# EAGLE library part 6SLX75FGG484 (library project)
Xilinx FPGA: 6SLX75FGG484
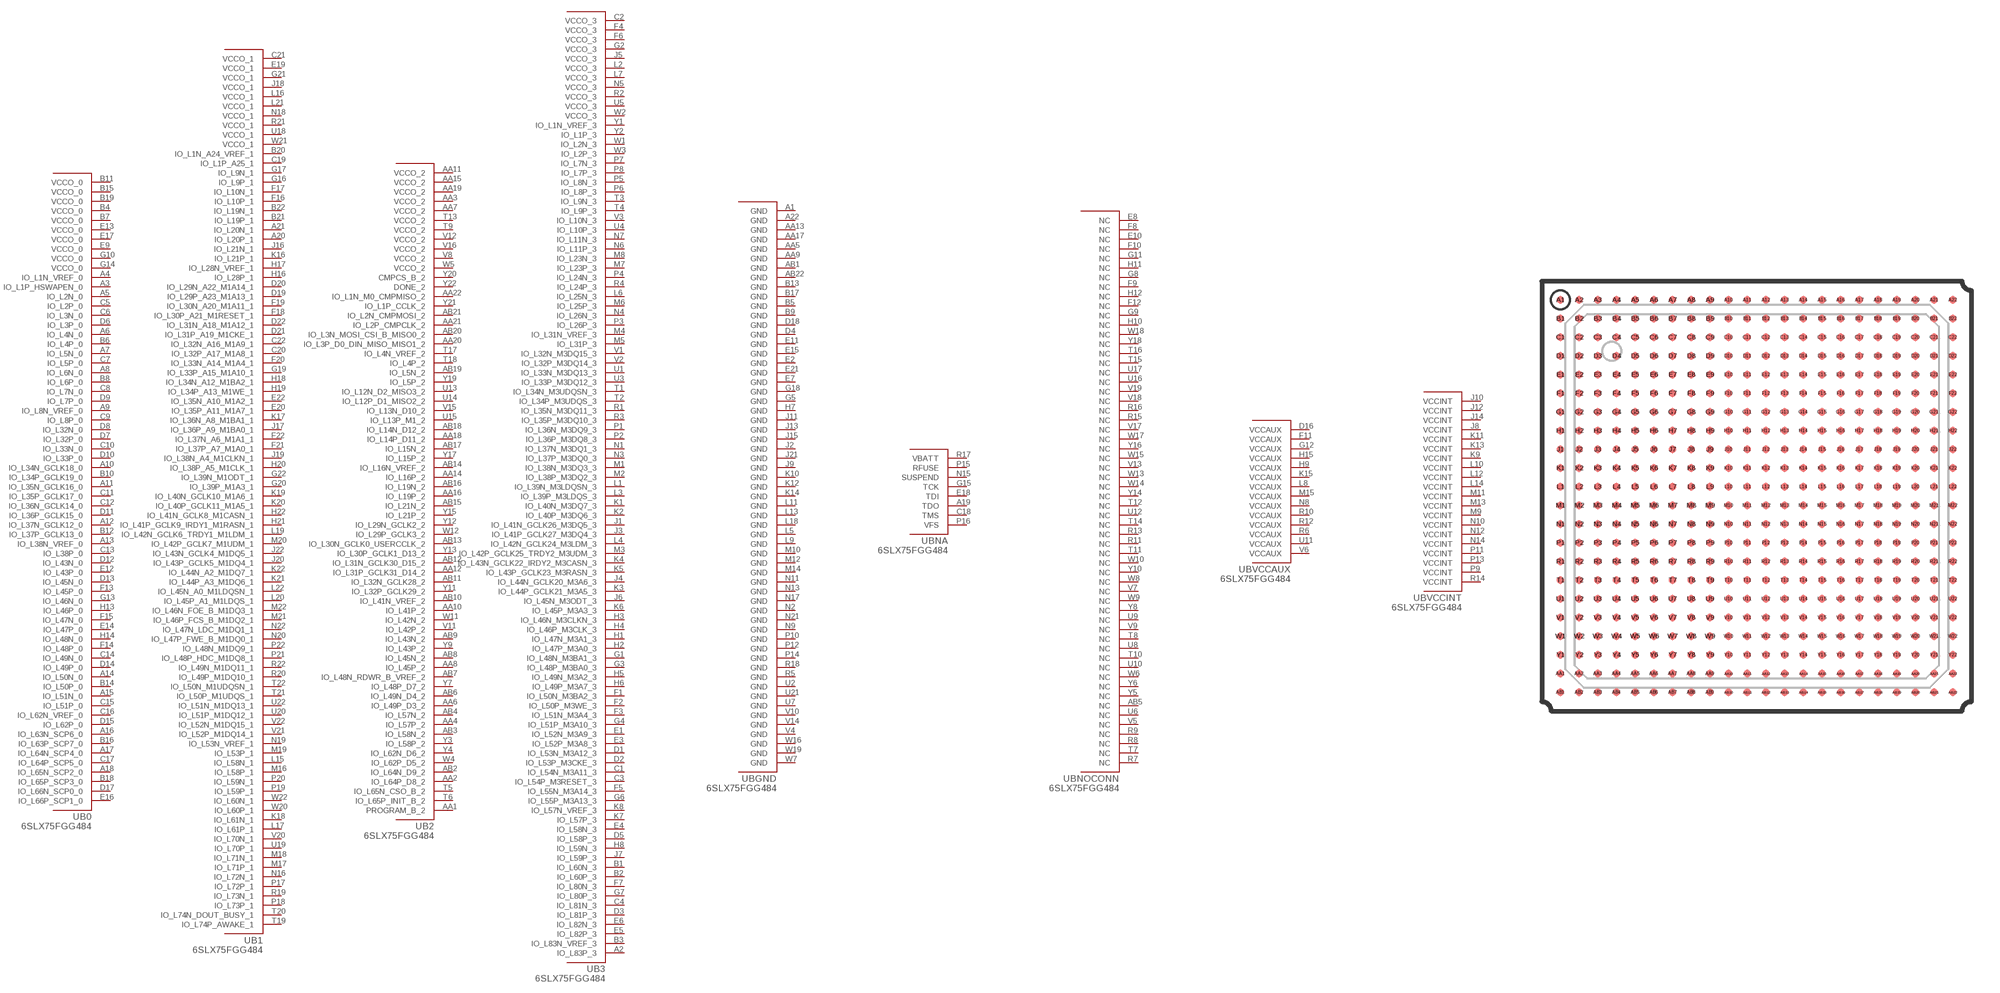
[diagram p8: symbol with the pads of FG484; footprint FG484]

Designator prefix U; gates B0=6SLX75FGG484_0 B1=6SLX75FGG484_1 B2=6SLX75FGG484_2 B3=6SLX75FGG484_3 BGND=6SLX75FGG484_GND BNA=6SLX75FGG484_NA BNOCONN=6SLX75FGG484_NOCONN BVCCAUX=6SLX75FGG484_VCCAUX BVCCINT=6SLX75FGG484_VCCINT

## 6SLX75FGG484  [FG484]
A1  BGND:GND  pwr
A2  B3:IO_L83P_3
A3  B0:IO_L1P_HSWAPEN_0
A4  B0:IO_L1N_VREF_0
A5  B0:IO_L2N_0
A6  B0:IO_L4N_0
A7  B0:IO_L5N_0
A8  B0:IO_L6N_0
A9  B0:IO_L8N_VREF_0
A10  B0:IO_L34N_GCLK18_0
A11  B0:IO_L35N_GCLK16_0
A12  B0:IO_L37N_GCLK12_0
A13  B0:IO_L38N_VREF_0
A14  B0:IO_L50N_0
A15  B0:IO_L51N_0
A16  B0:IO_L63N_SCP6_0
A17  B0:IO_L64N_SCP4_0
A18  B0:IO_L65N_SCP2_0
A19  BNA:TDO  out
A20  B1:IO_L20P_1
A21  B1:IO_L20N_1
A22  BGND:GND  pwr
AA1  B2:PROGRAM_B_2  in
AA2  B2:IO_L64P_D8_2
AA3  B2:VCCO_2  in
AA4  B2:IO_L57P_2
AA5  BGND:GND  pwr
AA6  B2:IO_L49P_D3_2
AA7  B2:VCCO_2  in
AA8  B2:IO_L45P_2
AA9  BGND:GND  pwr
AA10  B2:IO_L41P_2
AA11  B2:VCCO_2  in
AA12  B2:IO_L31P_GCLK31_D14_2
AA13  BGND:GND  pwr
AA14  B2:IO_L16P_2
AA15  B2:VCCO_2  in
AA16  B2:IO_L19P_2
AA17  BGND:GND  pwr
AA18  B2:IO_L14P_D11_2
AA19  B2:VCCO_2  in
AA20  B2:IO_L3P_D0_DIN_MISO_MISO1_2
AA21  B2:IO_L2P_CMPCLK_2
AA22  B2:IO_L1N_M0_CMPMISO_2
AB1  BGND:GND  pwr
AB2  B2:IO_L64N_D9_2
AB3  B2:IO_L58N_2
AB4  B2:IO_L57N_2
AB5  BNOCONN:NC  pas
AB6  B2:IO_L49N_D4_2
AB7  B2:IO_L48N_RDWR_B_VREF_2
AB8  B2:IO_L45N_2
AB9  B2:IO_L43N_2
AB10  B2:IO_L41N_VREF_2
AB11  B2:IO_L32N_GCLK28_2
AB12  B2:IO_L31N_GCLK30_D15_2
AB13  B2:IO_L30N_GCLK0_USERCCLK_2
AB14  B2:IO_L16N_VREF_2
AB15  B2:IO_L21N_2
AB16  B2:IO_L19N_2
AB17  B2:IO_L15N_2
AB18  B2:IO_L14N_D12_2
AB19  B2:IO_L5N_2
AB20  B2:IO_L3N_MOSI_CSI_B_MISO0_2
AB21  B2:IO_L2N_CMPMOSI_2
AB22  BGND:GND  pwr
B1  B3:IO_L60N_3
B2  B3:IO_L60P_3
B3  B3:IO_L83N_VREF_3
B4  B0:VCCO_0  in
B5  BGND:GND  pwr
B6  B0:IO_L4P_0
B7  B0:VCCO_0  in
B8  B0:IO_L6P_0
B9  BGND:GND  pwr
B10  B0:IO_L34P_GCLK19_0
B11  B0:VCCO_0  in
B12  B0:IO_L37P_GCLK13_0
B13  BGND:GND  pwr
B14  B0:IO_L50P_0
B15  B0:VCCO_0  in
B16  B0:IO_L63P_SCP7_0
B17  BGND:GND  pwr
B18  B0:IO_L65P_SCP3_0
B19  B0:VCCO_0  in
B20  B1:IO_L1N_A24_VREF_1
B21  B1:IO_L19P_1
B22  B1:IO_L19N_1
C1  B3:IO_L54N_M3A11_3
C2  B3:VCCO_3  in
C3  B3:IO_L54P_M3RESET_3
C4  B3:IO_L81N_3
C5  B0:IO_L2P_0
C6  B0:IO_L3N_0
C7  B0:IO_L5P_0
C8  B0:IO_L7N_0
C9  B0:IO_L8P_0
C10  B0:IO_L33N_0
C11  B0:IO_L35P_GCLK17_0
C12  B0:IO_L36N_GCLK14_0
C13  B0:IO_L38P_0
C14  B0:IO_L49N_0
C15  B0:IO_L51P_0
C16  B0:IO_L62N_VREF_0
C17  B0:IO_L64P_SCP5_0
C18  BNA:TMS  in
C19  B1:IO_L1P_A25_1
C20  B1:IO_L32P_A17_M1A8_1
C21  B1:VCCO_1  in
C22  B1:IO_L32N_A16_M1A9_1
D1  B3:IO_L53N_M3A12_3
D2  B3:IO_L53P_M3CKE_3
D3  B3:IO_L81P_3
D4  BGND:GND  pwr
D5  B3:IO_L58P_3
D6  B0:IO_L3P_0
D7  B0:IO_L32P_0
D8  B0:IO_L32N_0
D9  B0:IO_L7P_0
D10  B0:IO_L33P_0
D11  B0:IO_L36P_GCLK15_0
D12  B0:IO_L43N_0
D13  B0:IO_L45N_0
D14  B0:IO_L49P_0
D15  B0:IO_L62P_0
D16  BVCCAUX:VCCAUX  in
D17  B0:IO_L66N_SCP0_0
D18  BGND:GND  pwr
D19  B1:IO_L29P_A23_M1A13_1
D20  B1:IO_L29N_A22_M1A14_1
D21  B1:IO_L31P_A19_M1CKE_1
D22  B1:IO_L31N_A18_M1A12_1
E1  B3:IO_L52N_M3A9_3
E2  BGND:GND  pwr
E3  B3:IO_L52P_M3A8_3
E4  B3:IO_L58N_3
E5  B3:IO_L82P_3
E6  B3:IO_L82N_3
E7  BGND:GND  pwr
E8  BNOCONN:NC  pas
E9  B0:VCCO_0  in
E10  BNOCONN:NC  pas
E11  BGND:GND  pwr
E12  B0:IO_L43P_0
E13  B0:VCCO_0  in
E14  B0:IO_L47P_0
E15  BGND:GND  pwr
E16  B0:IO_L66P_SCP1_0
E17  B0:VCCO_0  in
E18  BNA:TDI  in
E19  B1:VCCO_1  in
E20  B1:IO_L35P_A11_M1A7_1
E21  BGND:GND  pwr
E22  B1:IO_L35N_A10_M1A2_1
F1  B3:IO_L50N_M3BA2_3
F2  B3:IO_L50P_M3WE_3
F3  B3:IO_L51N_M3A4_3
F4  B3:VCCO_3  in
F5  B3:IO_L55N_M3A14_3
F6  B3:VCCO_3  in
F7  B3:IO_L80N_3
F8  BNOCONN:NC  pas
F9  BNOCONN:NC  pas
F10  BNOCONN:NC  pas
F11  BVCCAUX:VCCAUX  in
F12  BNOCONN:NC  pas
F13  B0:IO_L45P_0
F14  B0:IO_L48P_0
F15  B0:IO_L47N_0
F16  B1:IO_L10P_1
F17  B1:IO_L10N_1
F18  B1:IO_L30P_A21_M1RESET_1
F19  B1:IO_L30N_A20_M1A11_1
F20  B1:IO_L33N_A14_M1A4_1
F21  B1:IO_L37P_A7_M1A0_1
F22  B1:IO_L37N_A6_M1A1_1
G1  B3:IO_L48N_M3BA1_3
G2  B3:VCCO_3  in
G3  B3:IO_L48P_M3BA0_3
G4  B3:IO_L51P_M3A10_3
G5  BGND:GND  pwr
G6  B3:IO_L55P_M3A13_3
G7  B3:IO_L80P_3
G8  BNOCONN:NC  pas
G9  BNOCONN:NC  pas
G10  B0:VCCO_0  in
G11  BNOCONN:NC  pas
G12  BVCCAUX:VCCAUX  in
G13  B0:IO_L46N_0
G14  B0:VCCO_0  in
G15  BNA:TCK  in
G16  B1:IO_L9P_1
G17  B1:IO_L9N_1
G18  BGND:GND  pwr
G19  B1:IO_L33P_A15_M1A10_1
G20  B1:IO_L39P_M1A3_1
G21  B1:VCCO_1  in
G22  B1:IO_L39N_M1ODT_1
H1  B3:IO_L47N_M3A1_3
H2  B3:IO_L47P_M3A0_3
H3  B3:IO_L46N_M3CLKN_3
H4  B3:IO_L46P_M3CLK_3
H5  B3:IO_L49N_M3A2_3
H6  B3:IO_L49P_M3A7_3
H7  BGND:GND  pwr
H8  B3:IO_L59N_3
H9  BVCCAUX:VCCAUX  in
H10  BNOCONN:NC  pas
H11  BNOCONN:NC  pas
H12  BNOCONN:NC  pas
H13  B0:IO_L46P_0
H14  B0:IO_L48N_0
H15  BVCCAUX:VCCAUX  in
H16  B1:IO_L28P_1
H17  B1:IO_L28N_VREF_1
H18  B1:IO_L34N_A12_M1BA2_1
H19  B1:IO_L34P_A13_M1WE_1
H20  B1:IO_L38P_A5_M1CLK_1
H21  B1:IO_L41P_GCLK9_IRDY1_M1RASN_1
H22  B1:IO_L41N_GCLK8_M1CASN_1
J1  B3:IO_L41N_GCLK26_M3DQ5_3
J2  BGND:GND  pwr
J3  B3:IO_L41P_GCLK27_M3DQ4_3
J4  B3:IO_L44N_GCLK20_M3A6_3
J5  B3:VCCO_3  in
J6  B3:IO_L45N_M3ODT_3
J7  B3:IO_L59P_3
J8  BVCCINT:VCCINT  in
J9  BGND:GND  pwr
J10  BVCCINT:VCCINT  in
J11  BGND:GND  pwr
J12  BVCCINT:VCCINT  in
J13  BGND:GND  pwr
J14  BVCCINT:VCCINT  in
J15  BGND:GND  pwr
J16  B1:IO_L21N_1
J17  B1:IO_L36P_A9_M1BA0_1
J18  B1:VCCO_1  in
J19  B1:IO_L38N_A4_M1CLKN_1
J20  B1:IO_L43P_GCLK5_M1DQ4_1
J21  BGND:GND  pwr
J22  B1:IO_L43N_GCLK4_M1DQ5_1
K1  B3:IO_L40N_M3DQ7_3
K2  B3:IO_L40P_M3DQ6_3
K3  B3:IO_L44P_GCLK21_M3A5_3
K4  B3:IO_L43N_GCLK22_IRDY2_M3CASN_3
K5  B3:IO_L43P_GCLK23_M3RASN_3
K6  B3:IO_L45P_M3A3_3
K7  B3:IO_L57P_3
K8  B3:IO_L57N_VREF_3
K9  BVCCINT:VCCINT  in
K10  BGND:GND  pwr
K11  BVCCINT:VCCINT  in
K12  BGND:GND  pwr
K13  BVCCINT:VCCINT  in
K14  BGND:GND  pwr
K15  BVCCAUX:VCCAUX  in
K16  B1:IO_L21P_1
K17  B1:IO_L36N_A8_M1BA1_1
K18  B1:IO_L61N_1
K19  B1:IO_L40N_GCLK10_M1A6_1
K20  B1:IO_L40P_GCLK11_M1A5_1
K21  B1:IO_L44P_A3_M1DQ6_1
K22  B1:IO_L44N_A2_M1DQ7_1
L1  B3:IO_L39N_M3LDQSN_3
L2  B3:VCCO_3  in
L3  B3:IO_L39P_M3LDQS_3
L4  B3:IO_L42N_GCLK24_M3LDM_3
L5  BGND:GND  pwr
L6  B3:IO_L25N_3
L7  B3:VCCO_3  in
L8  BVCCAUX:VCCAUX  in
L9  BGND:GND  pwr
L10  BVCCINT:VCCINT  in
L11  BGND:GND  pwr
L12  BVCCINT:VCCINT  in
L13  BGND:GND  pwr
L14  BVCCINT:VCCINT  in
L15  B1:IO_L58N_1
L16  B1:VCCO_1  in
L17  B1:IO_L61P_1
L18  BGND:GND  pwr
L19  B1:IO_L42N_GCLK6_TRDY1_M1LDM_1
L20  B1:IO_L45P_A1_M1LDQS_1
L21  B1:VCCO_1  in
L22  B1:IO_L45N_A0_M1LDQSN_1
M1  B3:IO_L38N_M3DQ3_3
M2  B3:IO_L38P_M3DQ2_3
M3  B3:IO_L42P_GCLK25_TRDY2_M3UDM_3
M4  B3:IO_L31N_VREF_3
M5  B3:IO_L31P_3
M6  B3:IO_L25P_3
M7  B3:IO_L23P_3
M8  B3:IO_L23N_3
M9  BVCCINT:VCCINT  in
M10  BGND:GND  pwr
M11  BVCCINT:VCCINT  in
M12  BGND:GND  pwr
M13  BVCCINT:VCCINT  in
M14  BGND:GND  pwr
M15  BVCCAUX:VCCAUX  in
M16  B1:IO_L58P_1
M17  B1:IO_L71P_1
M18  B1:IO_L71N_1
M19  B1:IO_L53P_1
M20  B1:IO_L42P_GCLK7_M1UDM_1
M21  B1:IO_L46P_FCS_B_M1DQ2_1
M22  B1:IO_L46N_FOE_B_M1DQ3_1
N1  B3:IO_L37N_M3DQ1_3
N2  BGND:GND  pwr
N3  B3:IO_L37P_M3DQ0_3
N4  B3:IO_L26N_3
N5  B3:VCCO_3  in
N6  B3:IO_L11P_3
N7  B3:IO_L11N_3
N8  BVCCAUX:VCCAUX  in
N9  BGND:GND  pwr
N10  BVCCINT:VCCINT  in
N11  BGND:GND  pwr
N12  BVCCINT:VCCINT  in
N13  BGND:GND  pwr
N14  BVCCINT:VCCINT  in
N15  BNA:SUSPEND  in
N16  B1:IO_L72N_1
N17  BGND:GND  pwr
N18  B1:VCCO_1  in
N19  B1:IO_L53N_VREF_1
N20  B1:IO_L47P_FWE_B_M1DQ0_1
N21  BGND:GND  pwr
N22  B1:IO_L47N_LDC_M1DQ1_1
P1  B3:IO_L36N_M3DQ9_3
P2  B3:IO_L36P_M3DQ8_3
P3  B3:IO_L26P_3
P4  B3:IO_L24N_3
P5  B3:IO_L8N_3
P6  B3:IO_L8P_3
P7  B3:IO_L7N_3
P8  B3:IO_L7P_3
P9  BVCCINT:VCCINT  in
P10  BGND:GND  pwr
P11  BVCCINT:VCCINT  in
P12  BGND:GND  pwr
P13  BVCCINT:VCCINT  in
P14  BGND:GND  pwr
P15  BNA:RFUSE
P16  BNA:VFS
P17  B1:IO_L72P_1
P18  B1:IO_L73P_1
P19  B1:IO_L59P_1
P20  B1:IO_L59N_1
P21  B1:IO_L48P_HDC_M1DQ8_1
P22  B1:IO_L48N_M1DQ9_1
R1  B3:IO_L35N_M3DQ11_3
R2  B3:VCCO_3  in
R3  B3:IO_L35P_M3DQ10_3
R4  B3:IO_L24P_3
R5  BGND:GND  pwr
R6  BVCCAUX:VCCAUX  in
R7  BNOCONN:NC  pas
R8  BNOCONN:NC  pas
R9  BNOCONN:NC  pas
R10  BVCCAUX:VCCAUX  in
R11  BNOCONN:NC  pas
R12  BVCCAUX:VCCAUX  in
R13  BNOCONN:NC  pas
R14  BVCCINT:VCCINT  in
R15  BNOCONN:NC  pas
R16  BNOCONN:NC  pas
R17  BNA:VBATT  in
R18  BGND:GND  pwr
R19  B1:IO_L73N_1
R20  B1:IO_L49P_M1DQ10_1
R21  B1:VCCO_1  in
R22  B1:IO_L49N_M1DQ11_1
T1  B3:IO_L34N_M3UDQSN_3
T2  B3:IO_L34P_M3UDQS_3
T3  B3:IO_L9N_3
T4  B3:IO_L9P_3
T5  B2:IO_L65N_CSO_B_2
T6  B2:IO_L65P_INIT_B_2
T7  BNOCONN:NC  pas
T8  BNOCONN:NC  pas
T9  B2:VCCO_2  in
T10  BNOCONN:NC  pas
T11  BNOCONN:NC  pas
T12  BNOCONN:NC  pas
T13  B2:VCCO_2  in
T14  BNOCONN:NC  pas
T15  BNOCONN:NC  pas
T16  BNOCONN:NC  pas
T17  B2:IO_L4N_VREF_2
T18  B2:IO_L4P_2
T19  B1:IO_L74P_AWAKE_1
T20  B1:IO_L74N_DOUT_BUSY_1
T21  B1:IO_L50P_M1UDQS_1
T22  B1:IO_L50N_M1UDQSN_1
U1  B3:IO_L33N_M3DQ13_3
U2  BGND:GND  pwr
U3  B3:IO_L33P_M3DQ12_3
U4  B3:IO_L10P_3
U5  B3:VCCO_3  in
U6  BNOCONN:NC  pas
U7  BGND:GND  pwr
U8  BNOCONN:NC  pas
U9  BNOCONN:NC  pas
U10  BNOCONN:NC  pas
U11  BVCCAUX:VCCAUX  in
U12  BNOCONN:NC  pas
U13  B2:IO_L12N_D2_MISO3_2
U14  B2:IO_L12P_D1_MISO2_2
U15  B2:IO_L13P_M1_2
U16  BNOCONN:NC  pas
U17  BNOCONN:NC  pas
U18  B1:VCCO_1  in
U19  B1:IO_L70P_1
U20  B1:IO_L51P_M1DQ12_1
U21  BGND:GND  pwr
U22  B1:IO_L51N_M1DQ13_1
V1  B3:IO_L32N_M3DQ15_3
V2  B3:IO_L32P_M3DQ14_3
V3  B3:IO_L10N_3
V4  BGND:GND  pwr
V5  BNOCONN:NC  pas
V6  BVCCAUX:VCCAUX  in
V7  BNOCONN:NC  pas
V8  B2:VCCO_2  in
V9  BNOCONN:NC  pas
V10  BGND:GND  pwr
V11  B2:IO_L42P_2
V12  B2:VCCO_2  in
V13  BNOCONN:NC  pas
V14  BGND:GND  pwr
V15  B2:IO_L13N_D10_2
V16  B2:VCCO_2  in
V17  BNOCONN:NC  pas
V18  BNOCONN:NC  pas
V19  BNOCONN:NC  pas
V20  B1:IO_L70N_1
V21  B1:IO_L52P_M1DQ14_1
V22  B1:IO_L52N_M1DQ15_1
W1  B3:IO_L2N_3
W2  B3:VCCO_3  in
W3  B3:IO_L2P_3
W4  B2:IO_L62P_D5_2
W5  B2:VCCO_2  in
W6  BNOCONN:NC  pas
W7  BGND:GND  pwr
W8  BNOCONN:NC  pas
W9  BNOCONN:NC  pas
W10  BNOCONN:NC  pas
W11  B2:IO_L42N_2
W12  B2:IO_L29P_GCLK3_2
W13  BNOCONN:NC  pas
W14  BNOCONN:NC  pas
W15  BNOCONN:NC  pas
W16  BGND:GND  pwr
W17  BNOCONN:NC  pas
W18  BNOCONN:NC  pas
W19  BGND:GND  pwr
W20  B1:IO_L60P_1
W21  B1:VCCO_1  in
W22  B1:IO_L60N_1
Y1  B3:IO_L1N_VREF_3
Y2  B3:IO_L1P_3
Y3  B2:IO_L58P_2
Y4  B2:IO_L62N_D6_2
Y5  BNOCONN:NC  pas
Y6  BNOCONN:NC  pas
Y7  B2:IO_L48P_D7_2
Y8  BNOCONN:NC  pas
Y9  B2:IO_L43P_2
Y10  BNOCONN:NC  pas
Y11  B2:IO_L32P_GCLK29_2
Y12  B2:IO_L29N_GCLK2_2
Y13  B2:IO_L30P_GCLK1_D13_2
Y14  BNOCONN:NC  pas
Y15  B2:IO_L21P_2
Y16  BNOCONN:NC  pas
Y17  B2:IO_L15P_2
Y18  BNOCONN:NC  pas
Y19  B2:IO_L5P_2
Y20  B2:CMPCS_B_2
Y21  B2:IO_L1P_CCLK_2
Y22  B2:DONE_2

## Footprint FG484 (pad centres in mm)
FG484 FGG484 Changed SMD size from 0.5mm to 0.4mm as per instruction
smd 0.4 x 0.4: A1 -10.5,10.5; A2 -9.5,10.5; A3 -8.5,10.5; A4 -7.5,10.5; A5 -6.5,10.5; A6 -5.5,10.5; A7 -4.5,10.5; A8 -3.5,10.5; A9 -2.5,10.5; A10 -1.5,10.5; A11 -0.5,10.5; A12 0.5,10.5; A13 1.5,10.5; A14 2.5,10.5; A15 3.5,10.5; A16 4.5,10.5; A17 5.5,10.5; A18 6.5,10.5; A19 7.5,10.5; A20 8.5,10.5; A21 9.5,10.5; A22 10.5,10.5; AA1 -10.5,-9.5; AA2 -9.5,-9.5; AA3 -8.5,-9.5; AA4 -7.5,-9.5; AA5 -6.5,-9.5; AA6 -5.5,-9.5; AA7 -4.5,-9.5; AA8 -3.5,-9.5; AA9 -2.5,-9.5; AA10 -1.5,-9.5; AA11 -0.5,-9.5; AA12 0.5,-9.5; AA13 1.5,-9.5; AA14 2.5,-9.5; AA15 3.5,-9.5; AA16 4.5,-9.5; AA17 5.5,-9.5; AA18 6.5,-9.5; AA19 7.5,-9.5; AA20 8.5,-9.5; AA21 9.5,-9.5; AA22 10.5,-9.5; AB1 -10.5,-10.5; AB2 -9.5,-10.5; AB3 -8.5,-10.5; AB4 -7.5,-10.5; AB5 -6.5,-10.5; AB6 -5.5,-10.5; AB7 -4.5,-10.5; AB8 -3.5,-10.5; AB9 -2.5,-10.5; AB10 -1.5,-10.5; AB11 -0.5,-10.5; AB12 0.5,-10.5; AB13 1.5,-10.5; AB14 2.5,-10.5; AB15 3.5,-10.5; AB16 4.5,-10.5; AB17 5.5,-10.5; AB18 6.5,-10.5; AB19 7.5,-10.5; AB20 8.5,-10.5; AB21 9.5,-10.5; AB22 10.5,-10.5; B1 -10.5,9.5; B2 -9.5,9.5; B3 -8.5,9.5; B4 -7.5,9.5; B5 -6.5,9.5; B6 -5.5,9.5; B7 -4.5,9.5; B8 -3.5,9.5; B9 -2.5,9.5; B10 -1.5,9.5; B11 -0.5,9.5; B12 0.5,9.5; B13 1.5,9.5; B14 2.5,9.5; B15 3.5,9.5; B16 4.5,9.5; B17 5.5,9.5; B18 6.5,9.5; B19 7.5,9.5; B20 8.5,9.5; B21 9.5,9.5; B22 10.5,9.5; C1 -10.5,8.5; C2 -9.5,8.5; C3 -8.5,8.5; C4 -7.5,8.5; C5 -6.5,8.5; C6 -5.5,8.5; C7 -4.5,8.5; C8 -3.5,8.5; C9 -2.5,8.5; C10 -1.5,8.5; C11 -0.5,8.5; C12 0.5,8.5; C13 1.5,8.5; C14 2.5,8.5; C15 3.5,8.5; C16 4.5,8.5; C17 5.5,8.5; C18 6.5,8.5; C19 7.5,8.5; C20 8.5,8.5; C21 9.5,8.5; C22 10.5,8.5; D1 -10.5,7.5; D2 -9.5,7.5; D3 -8.5,7.5; D4 -7.5,7.5; D5 -6.5,7.5; D6 -5.5,7.5; D7 -4.5,7.5; D8 -3.5,7.5; D9 -2.5,7.5; D10 -1.5,7.5; D11 -0.5,7.5; D12 0.5,7.5; D13 1.5,7.5; D14 2.5,7.5; D15 3.5,7.5; D16 4.5,7.5; D17 5.5,7.5; D18 6.5,7.5; D19 7.5,7.5; D20 8.5,7.5; D21 9.5,7.5; D22 10.5,7.5; E1 -10.5,6.5; E2 -9.5,6.5; E3 -8.5,6.5; E4 -7.5,6.5; E5 -6.5,6.5; E6 -5.5,6.5; E7 -4.5,6.5; E8 -3.5,6.5; E9 -2.5,6.5; E10 -1.5,6.5; E11 -0.5,6.5; E12 0.5,6.5; E13 1.5,6.5; E14 2.5,6.5; E15 3.5,6.5; E16 4.5,6.5; E17 5.5,6.5; E18 6.5,6.5; E19 7.5,6.5; E20 8.5,6.5; E21 9.5,6.5; E22 10.5,6.5; F1 -10.5,5.5; F2 -9.5,5.5; F3 -8.5,5.5; F4 -7.5,5.5; F5 -6.5,5.5; F6 -5.5,5.5; F7 -4.5,5.5; F8 -3.5,5.5; F9 -2.5,5.5; F10 -1.5,5.5; F11 -0.5,5.5; F12 0.5,5.5; F13 1.5,5.5; F14 2.5,5.5; F15 3.5,5.5; F16 4.5,5.5; F17 5.5,5.5; F18 6.5,5.5; F19 7.5,5.5; F20 8.5,5.5; F21 9.5,5.5; F22 10.5,5.5; G1 -10.5,4.5; G2 -9.5,4.5; G3 -8.5,4.5; G4 -7.5,4.5; G5 -6.5,4.5; G6 -5.5,4.5; G7 -4.5,4.5; G8 -3.5,4.5; G9 -2.5,4.5; G10 -1.5,4.5; G11 -0.5,4.5; G12 0.5,4.5; G13 1.5,4.5; G14 2.5,4.5; G15 3.5,4.5; G16 4.5,4.5; G17 5.5,4.5; G18 6.5,4.5; G19 7.5,4.5; G20 8.5,4.5; G21 9.5,4.5; G22 10.5,4.5; H1 -10.5,3.5; H2 -9.5,3.5; H3 -8.5,3.5; H4 -7.5,3.5; H5 -6.5,3.5; H6 -5.5,3.5; H7 -4.5,3.5; H8 -3.5,3.5; H9 -2.5,3.5; H10 -1.5,3.5; H11 -0.5,3.5; H12 0.5,3.5; H13 1.5,3.5; H14 2.5,3.5; H15 3.5,3.5; H16 4.5,3.5; H17 5.5,3.5; H18 6.5,3.5; H19 7.5,3.5; H20 8.5,3.5; H21 9.5,3.5; H22 10.5,3.5; J1 -10.5,2.5; J2 -9.5,2.5; J3 -8.5,2.5; J4 -7.5,2.5; J5 -6.5,2.5; J6 -5.5,2.5; J7 -4.5,2.5; J8 -3.5,2.5; J9 -2.5,2.5; J10 -1.5,2.5; J11 -0.5,2.5; J12 0.5,2.5; J13 1.5,2.5; J14 2.5,2.5; J15 3.5,2.5; J16 4.5,2.5; J17 5.5,2.5; J18 6.5,2.5; J19 7.5,2.5; J20 8.5,2.5; J21 9.5,2.5; J22 10.5,2.5; K1 -10.5,1.5; K2 -9.5,1.5; K3 -8.5,1.5; K4 -7.5,1.5; K5 -6.5,1.5; K6 -5.5,1.5; K7 -4.5,1.5; K8 -3.5,1.5; K9 -2.5,1.5; K10 -1.5,1.5; K11 -0.5,1.5; K12 0.5,1.5; K13 1.5,1.5; K14 2.5,1.5; K15 3.5,1.5; K16 4.5,1.5; K17 5.5,1.5; K18 6.5,1.5; K19 7.5,1.5; K20 8.5,1.5; K21 9.5,1.5; K22 10.5,1.5; L1 -10.5,0.5; L2 -9.5,0.5; L3 -8.5,0.5; L4 -7.5,0.5; L5 -6.5,0.5; L6 -5.5,0.5; L7 -4.5,0.5; L8 -3.5,0.5; L9 -2.5,0.5; L10 -1.5,0.5; L11 -0.5,0.5; L12 0.5,0.5; L13 1.5,0.5; L14 2.5,0.5; L15 3.5,0.5; L16 4.5,0.5; L17 5.5,0.5; L18 6.5,0.5; L19 7.5,0.5; L20 8.5,0.5; L21 9.5,0.5; L22 10.5,0.5; M1 -10.5,-0.5; M2 -9.5,-0.5; M3 -8.5,-0.5; M4 -7.5,-0.5; M5 -6.5,-0.5; M6 -5.5,-0.5; M7 -4.5,-0.5; M8 -3.5,-0.5; M9 -2.5,-0.5; M10 -1.5,-0.5; M11 -0.5,-0.5; M12 0.5,-0.5; M13 1.5,-0.5; M14 2.5,-0.5; M15 3.5,-0.5; M16 4.5,-0.5; M17 5.5,-0.5; M18 6.5,-0.5; M19 7.5,-0.5; M20 8.5,-0.5; M21 9.5,-0.5; M22 10.5,-0.5; N1 -10.5,-1.5; N2 -9.5,-1.5; N3 -8.5,-1.5; N4 -7.5,-1.5; N5 -6.5,-1.5; N6 -5.5,-1.5; N7 -4.5,-1.5; N8 -3.5,-1.5; N9 -2.5,-1.5; N10 -1.5,-1.5; N11 -0.5,-1.5; N12 0.5,-1.5; N13 1.5,-1.5; N14 2.5,-1.5; N15 3.5,-1.5; N16 4.5,-1.5; N17 5.5,-1.5; N18 6.5,-1.5; N19 7.5,-1.5; N20 8.5,-1.5; N21 9.5,-1.5; N22 10.5,-1.5; P1 -10.5,-2.5; P2 -9.5,-2.5; P3 -8.5,-2.5; P4 -7.5,-2.5; P5 -6.5,-2.5; P6 -5.5,-2.5; P7 -4.5,-2.5; P8 -3.5,-2.5; P9 -2.5,-2.5; P10 -1.5,-2.5; P11 -0.5,-2.5; P12 0.5,-2.5; P13 1.5,-2.5; P14 2.5,-2.5; P15 3.5,-2.5; P16 4.5,-2.5; P17 5.5,-2.5; P18 6.5,-2.5; P19 7.5,-2.5; P20 8.5,-2.5; P21 9.5,-2.5; P22 10.5,-2.5; R1 -10.5,-3.5; R2 -9.5,-3.5; R3 -8.5,-3.5; R4 -7.5,-3.5; R5 -6.5,-3.5; R6 -5.5,-3.5; R7 -4.5,-3.5; R8 -3.5,-3.5; R9 -2.5,-3.5; R10 -1.5,-3.5; R11 -0.5,-3.5; R12 0.5,-3.5; R13 1.5,-3.5; R14 2.5,-3.5; R15 3.5,-3.5; R16 4.5,-3.5; R17 5.5,-3.5; R18 6.5,-3.5; R19 7.5,-3.5; R20 8.5,-3.5; R21 9.5,-3.5; R22 10.5,-3.5; T1 -10.5,-4.5; T2 -9.5,-4.5; T3 -8.5,-4.5; T4 -7.5,-4.5; T5 -6.5,-4.5; T6 -5.5,-4.5; T7 -4.5,-4.5; T8 -3.5,-4.5; T9 -2.5,-4.5; T10 -1.5,-4.5; T11 -0.5,-4.5; T12 0.5,-4.5; T13 1.5,-4.5; T14 2.5,-4.5; T15 3.5,-4.5; T16 4.5,-4.5; T17 5.5,-4.5; T18 6.5,-4.5; T19 7.5,-4.5; T20 8.5,-4.5; T21 9.5,-4.5; T22 10.5,-4.5; U1 -10.5,-5.5; U2 -9.5,-5.5; U3 -8.5,-5.5; U4 -7.5,-5.5; U5 -6.5,-5.5; U6 -5.5,-5.5; U7 -4.5,-5.5; U8 -3.5,-5.5; U9 -2.5,-5.5; U10 -1.5,-5.5; U11 -0.5,-5.5; U12 0.5,-5.5; U13 1.5,-5.5; U14 2.5,-5.5; U15 3.5,-5.5; U16 4.5,-5.5; U17 5.5,-5.5; U18 6.5,-5.5; U19 7.5,-5.5; U20 8.5,-5.5; U21 9.5,-5.5; U22 10.5,-5.5; V1 -10.5,-6.5; V2 -9.5,-6.5; V3 -8.5,-6.5; V4 -7.5,-6.5; V5 -6.5,-6.5; V6 -5.5,-6.5; V7 -4.5,-6.5; V8 -3.5,-6.5; V9 -2.5,-6.5; V10 -1.5,-6.5; V11 -0.5,-6.5; V12 0.5,-6.5; V13 1.5,-6.5; V14 2.5,-6.5; V15 3.5,-6.5; V16 4.5,-6.5; V17 5.5,-6.5; V18 6.5,-6.5; V19 7.5,-6.5; V20 8.5,-6.5; V21 9.5,-6.5; V22 10.5,-6.5; W1 -10.5,-7.5; W2 -9.5,-7.5; W3 -8.5,-7.5; W4 -7.5,-7.5; W5 -6.5,-7.5; W6 -5.5,-7.5; W7 -4.5,-7.5; W8 -3.5,-7.5; W9 -2.5,-7.5; W10 -1.5,-7.5; W11 -0.5,-7.5; W12 0.5,-7.5; W13 1.5,-7.5; W14 2.5,-7.5; W15 3.5,-7.5; W16 4.5,-7.5; W17 5.5,-7.5; W18 6.5,-7.5; W19 7.5,-7.5; W20 8.5,-7.5; W21 9.5,-7.5; W22 10.5,-7.5; Y1 -10.5,-8.5; Y2 -9.5,-8.5; Y3 -8.5,-8.5; Y4 -7.5,-8.5; Y5 -6.5,-8.5; Y6 -5.5,-8.5; Y7 -4.5,-8.5; Y8 -3.5,-8.5; Y9 -2.5,-8.5; Y10 -1.5,-8.5; Y11 -0.5,-8.5; Y12 0.5,-8.5; Y13 1.5,-8.5; Y14 2.5,-8.5; Y15 3.5,-8.5; Y16 4.5,-8.5; Y17 5.5,-8.5; Y18 6.5,-8.5; Y19 7.5,-8.5; Y20 8.5,-8.5; Y21 9.5,-8.5; Y22 10.5,-8.5